# Altium footprint library BOOST升压电感.PcbLib: 4 footprints
Each footprint in its own frame and in the unit in brackets; x right, y up, seen from the top. Pads: shape width x height; smd on the part's side, far side on the other; paste and mask are expansions set on the pad; w line width, h text height; cw(c..) or ccw(c..) is an arc to the next point about the centre after c.
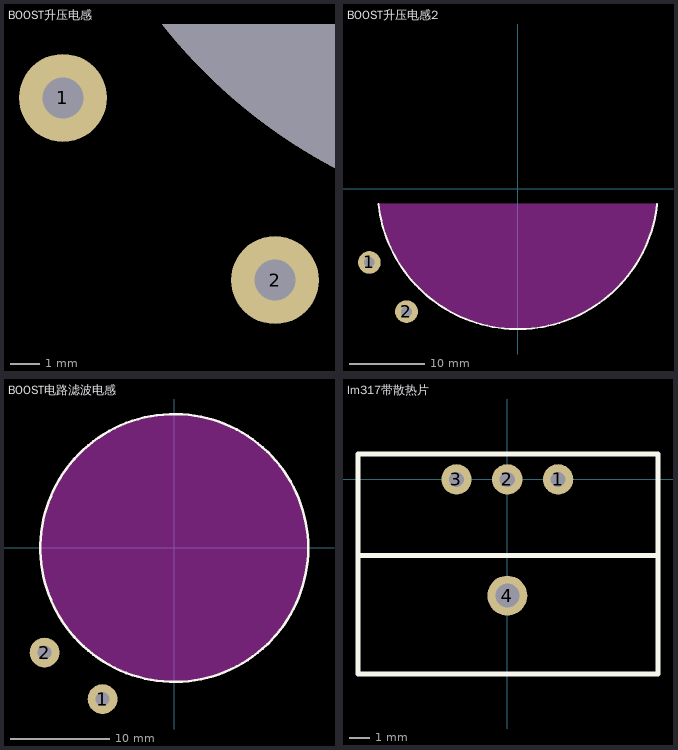
[diagram p0: the footprints below, top view; thin cyan lines are the x and y axes]

## BOOST升压电感 [mm]
height 10
pads (2):
  round 3 hole 1.4: 1(-18.034,-13.208) 2(-10.795,-19.431)
via -0.127,0.762 diameter 37 hole 37

## BOOST升压电感2 [mm]
pads (2):
  round 3 hole 1.4: 1(-19.6,-9.7) 2(-14.7,-16.2)
Top Overlay:
  lines w0.254: -18.394,-1.978 ccw(c0,0) 18.394,-1.978
Keep-Out Layer:
  board cut-out: -18.394,-1.978 18.394,-1.978 18.323,-2.635 18.089,-3.935 17.762,-5.215 17.345,-6.469 16.839,-7.69 16.247,-8.872 15.573,-10.008 14.819,-11.094 13.99,-12.123 13.09,-13.09 12.123,-13.99 11.094,-14.819 10.008,-15.573 8.872,-16.247 7.69,-16.839 6.469,-17.345 5.215,-17.762 3.935,-18.089 2.635,-18.323 1.321,-18.465 0,-18.512 -1.321,-18.465 -2.635,-18.323 -3.935,-18.089 -5.215,-17.762 -6.469,-17.345 -7.69,-16.839 -8.872,-16.247 -10.008,-15.573 -11.094,-14.819 -12.123,-13.99 -13.09,-13.09 -13.99,-12.123 -14.819,-11.094 -15.573,-10.008 -16.247,-8.872 -16.839,-7.69 -17.345,-6.469 -17.762,-5.215 -18.089,-3.935 -18.323,-2.635

## BOOST电路滤波电感 [mm]
height 13
pads (2):
  round 3 hole 1.4: 1(-7.239,-15.24) 2(-13.081,-10.541)
Top Overlay:
  circle w0.254: c0,0 r13.5
Keep-Out Layer:
  board cut-out: 0,-13.51 -1.06,-13.469 -2.113,-13.344 -3.154,-13.137 -4.175,-12.849 -5.17,-12.482 -6.134,-12.038 -7.059,-11.52 -7.941,-10.93 -8.774,-10.273 -9.553,-9.553 -10.273,-8.774 -10.93,-7.941 -11.52,-7.059 -12.038,-6.134 -12.482,-5.17 -12.849,-4.175 -13.137,-3.154 -13.344,-2.113 -13.469,-1.06 -13.51,0 -13.469,1.06 -13.344,2.113 -13.137,3.154 -12.849,4.175 -12.482,5.17 -12.038,6.134 -11.52,7.059 -10.93,7.941 -10.273,8.774 -9.553,9.553 -8.774,10.273 -7.941,10.93 -7.059,11.52 -6.134,12.038 -5.17,12.482 -4.175,12.849 -3.154,13.137 -2.113,13.344 -1.06,13.469 0,13.51 1.06,13.469 2.113,13.344 3.154,13.137 4.175,12.849 5.17,12.482 6.134,12.038 7.059,11.52 7.941,10.93 8.774,10.273 9.553,9.553 10.273,8.774 10.93,7.941 11.52,7.059 12.038,6.134 12.482,5.17 12.849,4.175 13.137,3.154 13.344,2.113 13.469,1.06 13.51,0 13.469,-1.06 13.344,-2.113 13.137,-3.154 12.849,-4.175 12.482,-5.17 12.038,-6.134 11.52,-7.059 10.93,-7.941 10.273,-8.774 9.553,-9.553 8.774,-10.273 7.941,-10.93 7.059,-11.52 6.134,-12.038 5.17,-12.482 4.175,-12.849 3.154,-13.137 2.113,-13.344 1.06,-13.469

## lm317带散热片 [mil]
pads (4):
  round 60 hole 30: 1(100,0) 2(0,0) 3(-100,0)
  round 78.74 hole 47.24: 4(0,-228.74)
Top Overlay:
  lines w10: -287.5,-150 296.65,-150 ; -293.9,-383.07 -185.63,-383.07 -33.07,-383.07 35.83,-383.07 188.39,-383.07 296.65,-383.07 296.65,50 -293.9,50 -293.9,-383.07